# Altium schematic symbol library SCH - POWER - SWITCHMODE - TI TPS51117_RGY_14.SchLib: 1 symbol
Pins are listed as number, name and electrical type; pins without a type are passive.

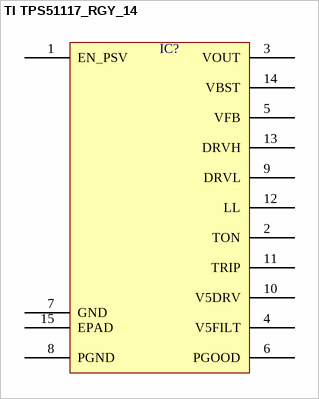
[diagram p0: symbol TI TPS51117_RGY_14]

## TI TPS51117_RGY_14
designator IC?  (value not drawn)
pins: 1 EN_PSV, 2 TON, 3 VOUT, 4 V5FILT, 5 VFB, 6 PGOOD, 7 GND, 8 PGND, 9 DRVL, 10 V5DRV, 11 TRIP, 12 LL, 13 DRVH, 14 VBST, 15 EPAD